# EAGLE library part GT20L16P1Y (library IC)
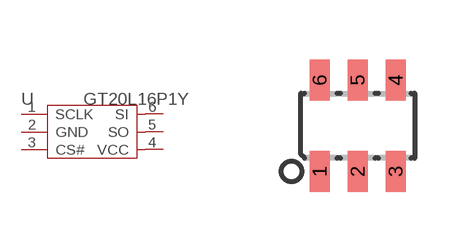
[diagram p61: symbol with the pads of SOT23-6; footprint SOT23-6]

Designator prefix U

## GT20L16P1Y  [SOT23-6]
1  SCLK  in
2  GND  sup
3  CS#  in
4  VCC  sup
5  SO  out
6  SI  in

## Footprint SOT23-6 (pad centres in mm)
smd 0.508 x 1.016: 1 -0.95,-1.143; 2 0,-1.143; 3 0.95,-1.143; 4 0.95,1.143; 5 0,1.143; 6 -0.95,1.143